# Altium schematic symbol library helix_4_minimal_template.SCHLIB: 10 symbols
Pins are listed as number, name and electrical type; pins without a type are passive.

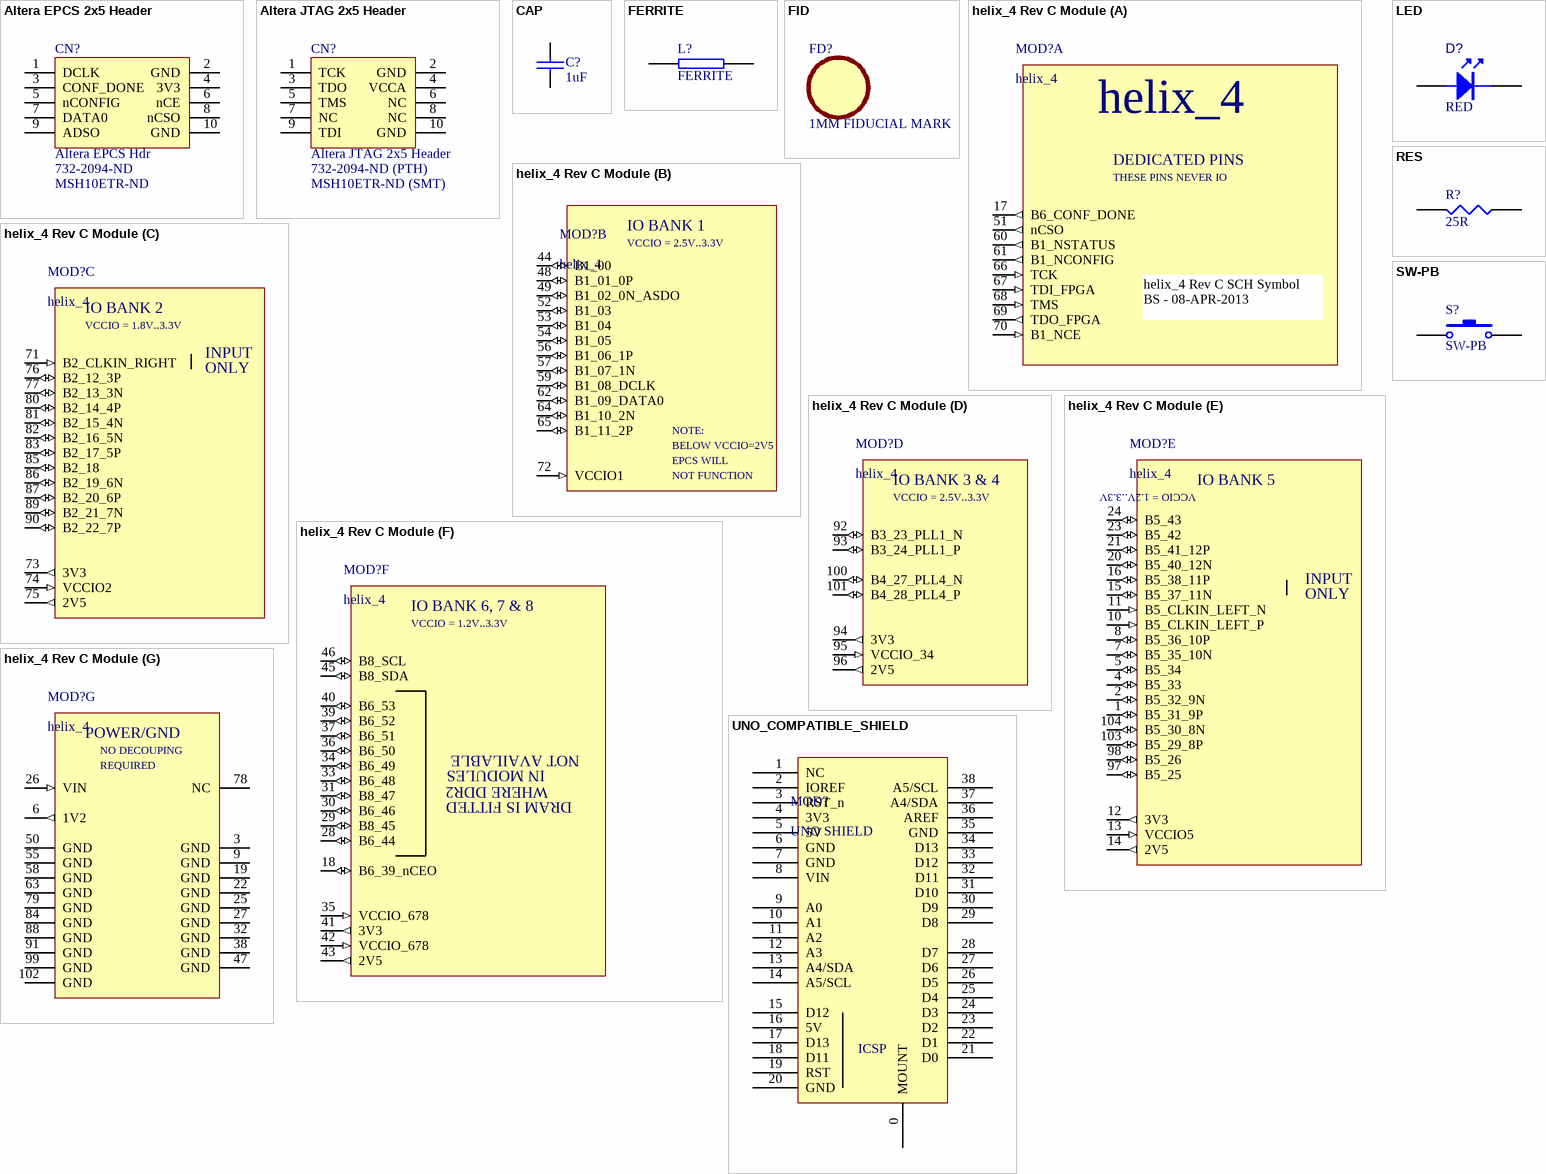
[diagram p0: symbols Altera EPCS 2x5 Header to UNO_COMPATIBLE_SHIELD]

## Altera EPCS 2x5 Header
designator CN?, comment Altera EPCS Hdr  Supplier Part Number 1: 732-2094-ND  Supplier Part Number 2: MSH10ETR-ND
Header, 5-Pin, Dual row; Manufacturer: Wurth Electronics Inc; Manufacturer Part Number: 61201021621; Description: BOX HEADER 2.54MM MALE STR 10POS; Connector Type: Header, Shrouded; Number of Positions: 10; Number of Positions Loaded: All; Pitch: 0.100" (2.54mm); LatestRevisionDate: 17-Jul-2002; LatestRevisionNote: Re-released for DXP Platform.; Publisher: Altium Limited; Supplier 1: Digi-Key; RoHS: RoHS Compliant; Category: Connectors, Interconnects; Stock 1: 324; Pricing 1: 1=0.97, 25=0.8052, 100=0.713, 250=0.63252, 500=0.575, 1000=0.46, 2500=0.4025, 5000=0.3335, 10000=0.3059 (USD); Contact Type: Male Pin; Number of Rows: 2; Row Spacing: 0.100" (2.54mm); Contact Mating Length: -; Mounting Type: Through Hole; Termination: Solder; Fastening Type: -; Features: -; Contact Finish: Gold; Contact Finish Thickness: -; Color: Black; Packaging: Tray; ComponentLink1URL: http://www.we-online.de/eican/media/pdf/6120xx21621.pdf; ComponentLink1Description: http://www.we-online.de/eican/media/pdf/6120xx21621.pdf; Supplier 2: Digi-Key
footprint HDR2X5 (Connector; Header; 5x2 Position)
signal-integrity model Connector
footprint BOXHDR2X5
footprint BOXHDR2X5_SMT
pins: 1 DCLK, 2 GND, 3 CONF_DONE, 4 3V3, 5 nCONFIG, 6 nCE, 7 DATA0, 8 nCSO, 9 ADSO, 10 GND

## Altera JTAG 2x5 Header
designator CN?  Supplier Part Number 1: 732-2094-ND (PTH)  Supplier Part Number 2: MSH10ETR-ND (SMT)
Header, 5-Pin, Dual row; Manufacturer: Wurth Electronics Inc; Manufacturer Part Number: 61201021621; Description: BOX HEADER 2.54MM MALE STR 10POS; Connector Type: Header, Shrouded; Number of Positions: 10; Number of Positions Loaded: All; Pitch: 0.100" (2.54mm); LatestRevisionDate: 17-Jul-2002; LatestRevisionNote: Re-released for DXP Platform.; Publisher: Altium Limited; Supplier 1: Digi-Key; RoHS: RoHS Compliant; Category: Connectors, Interconnects; Stock 1: 324; Pricing 1: 1=0.97, 25=0.8052, 100=0.713, 250=0.63252, 500=0.575, 1000=0.46, 2500=0.4025, 5000=0.3335, 10000=0.3059 (USD); Contact Type: Male Pin; Number of Rows: 2; Row Spacing: 0.100" (2.54mm); Contact Mating Length: -; Mounting Type: Through Hole; Termination: Solder; Fastening Type: -; Features: -; Contact Finish: Gold; Contact Finish Thickness: -; Color: Black; Packaging: Tray; ComponentLink1URL: http://www.we-online.de/eican/media/pdf/6120xx21621.pdf; ComponentLink1Description: http://www.we-online.de/eican/media/pdf/6120xx21621.pdf; Supplier 2: Digi-Key
footprint HDR2X5 (Connector; Header; 5x2 Position)
signal-integrity model Connector
footprint BOXHDR2X5
footprint BOXHDR2X5_SMT
pins: 1 TCK, 2 GND, 3 TDO, 4 VCCA, 5 TMS, 6 NC, 7 NC, 8 NC, 9 TDI, 10 GND

## CAP
designator C?, comment 1uF
Capacitor
footprint 0603
footprint 0402-ALT
footprint 0402
footprint 0402_hd
pins: 1, 2

## FERRITE
designator L?
footprint RC0805
footprint 0805
footprint 0402_HD
pins: 1, 2

## FID
designator FD?, comment 1MM FIDUCIAL MARK
footprint FID_1MM (Footprint not found)
pins: 1 FID hidden

## helix_4 Rev C Module
designator MOD?, comment helix_4
footprint HELIX_4_LCC104_HOST (Footprint not found)
part A pins: 17 B6_CONF_DONE (out), 51 nCSO (out), 60 B1_NSTATUS (out), 61 B1_NCONFIG (out), 66 TCK (in), 67 TDI_FPGA (in), 68 TMS (in), 69 TDO_FPGA (out), 70 B1_NCE (in)
part B pins: 44 B1_00 (io), 48 B1_01_0P (io), 49 B1_02_0N_ASDO (io), 52 B1_03 (io), 53 B1_04 (io), 54 B1_05 (io), 56 B1_06_1P (io), 57 B1_07_1N (io), 59 B1_08_DCLK (io), 62 B1_09_DATA0 (io), 64 B1_10_2N (io), 65 B1_11_2P (io), 72 VCCIO1 (in)
part C pins: 71 B2_CLKIN_RIGHT (in), 73 3V3 (out), 74 VCCIO2 (in), 75 2V5 (out), 76 B2_12_3P (io), 77 B2_13_3N (io), 80 B2_14_4P (io), 81 B2_15_4N (io), 82 B2_16_5N (io), 83 B2_17_5P (io), 85 B2_18 (io), 86 B2_19_6N (io), 87 B2_20_6P (io), 89 B2_21_7N (io), 90 B2_22_7P (io)
part D pins: 92 B3_23_PLL1_N (io), 93 B3_24_PLL1_P (io), 94 3V3 (out), 95 VCCIO_34 (in), 96 2V5 (out), 100 B4_27_PLL4_N (io), 101 B4_28_PLL4_P (io)
part E pins: 1 B5_31_9P (io), 2 B5_32_9N (io), 4 B5_33 (io), 5 B5_34 (io), 7 B5_35_10N (io), 8 B5_36_10P (io), 10 B5_CLKIN_LEFT_P (in), 11 B5_CLKIN_LEFT_N (in), 12 3V3 (out), 13 VCCIO5 (in), 14 2V5 (out), 15 B5_37_11N (io), 16 B5_38_11P (io), 20 B5_40_12N (io), 21 B5_41_12P (io), 23 B5_42 (io), 24 B5_43 (io), 97 B5_25 (io), 98 B5_26 (io), 103 B5_29_8P (io), 104 B5_30_8N (io)
part F pins: 18 B6_39_nCEO (io), 28 B6_44 (io), 29 B8_45 (io), 30 B6_46 (io), 31 B8_47 (io), 33 B6_48 (io), 34 B6_49 (io), 35 VCCIO_678 (in), 36 B6_50 (io), 37 B6_51 (io), 39 B6_52 (io), 40 B6_53 (io), 41 3V3 (out), 42 VCCIO_678 (in), 43 2V5 (out), 45 B8_SDA (io), 46 B8_SCL (io)
part G pins: 3 GND, 6 1V2 (out), 9 GND, 19 GND, 22 GND, 25 GND, 26 VIN (in), 27 GND, 32 GND, 38 GND, 47 GND, 50 GND, 55 GND, 58 GND, 63 GND, 78 NC, 79 GND, 84 GND, 88 GND, 91 GND, 99 GND, 102 GND
part A text: DEDICATED PINS; THESE PINS NEVER IO; helix_4 Rev C SCH Symbol / BS - 08-APR-2013 /
part B text: IO BANK 1; VCCIO = 2.5V..3.3V; NOTE:; BELOW VCCIO=2V5; EPCS WILL; NOT FUNCTION
part C text: IO BANK 2; VCCIO = 1.8V..3.3V; INPUT; ONLY
part D text: IO BANK 3 & 4; VCCIO = 2.5V..3.3V
part E text: IO BANK 5; VCCIO = 1.2V..3.3V; INPUT; ONLY
part F text: IO BANK 6, 7 & 8; VCCIO = 1.2V..3.3V; NOT AVAILABLE; IN MODULES; WHERE DDR2; DRAM IS FITTED
part G text: POWER/GND; NO DECOUPING; REQUIRED

## LED
designator D?, comment RED
footprint LED0805
footprint LED0603
footprint 0402
footprint 0402_HD
footprint 0402LED_HD
pins: A 1, K 2

## RES
designator R?, comment 25R
footprint 0603
footprint 0805
footprint 0402_HD
pins: 1, 2

## SW-PB
designator S?
Switch; Published: 24-Mar-1999; LatestRevisionDate: 17-Jul-2002; LatestRevisionNote: Re-released for DXP Platform.; PackageReference: SPST-2; Publisher: Altium Limited
footprint SPST-2 (Switch; 2 Leads)
footprint FSMRA6 (Footprint not found)
footprint TL1105_V
pins: 1, 2

## UNO_COMPATIBLE_SHIELD
designator MOD?, comment UNO SHIELD
footprint UNO_SHIELD (Footprint not found)
pins: 0 MOUNT, 1 NC, 2 IOREF, 3 RST_n, 4 3V3, 5 5V, 6 GND, 7 GND, 8 VIN, 9 A0, 10 A1, 11 A2, 12 A3, 13 A4/SDA, 14 A5/SCL, 15 D12, 16 5V, 17 D13, 18 D11, 19 RST, 20 GND, 21 D0, 22 D1, 23 D2, 24 D3, 25 D4, 26 D5, 27 D6, 28 D7, 29 D8, 30 D9, 31 D10, 32 D11, 33 D12, 34 D13, 35 GND, 36 AREF, 37 A4/SDA, 38 A5/SCL
text: ICSP